# Altium integrated library TCA8418.IntLib: 1 symbol
Pins are listed as number, name and electrical type; pins without a type are passive.

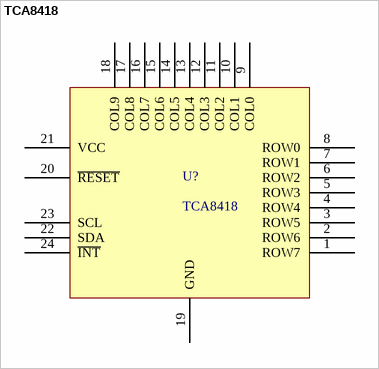
[diagram p0: symbol TCA8418]

## TCA8418
designator U?
I2C keyboard controller, TI
footprint PQFN50P400X400X80_HS-25N (PQFN, 24-Leads, Body 4.00x4.00mm, Pitch 0.50mm, Thermal Pad 2.45x2.45mm, IPC Medium Density)
pins: 1 ROW7, 2 ROW6, 3 ROW5, 4 ROW4, 5 ROW3, 6 ROW2, 7 ROW1, 8 ROW0, 9 COL0, 10 COL1, 11 COL2, 12 COL3, 13 COL4, 14 COL5, 15 COL6, 16 COL7, 17 COL8, 18 COL9, 19 GND, 20 ~{RESET}, 21 VCC, 22 SDA, 23 SCL, 24 ~{INT}